# EAGLE library part S08B-PASK-2 (library con-jst-cubic)
JST EPA Side Entry Through Hole Standard type 8 pin
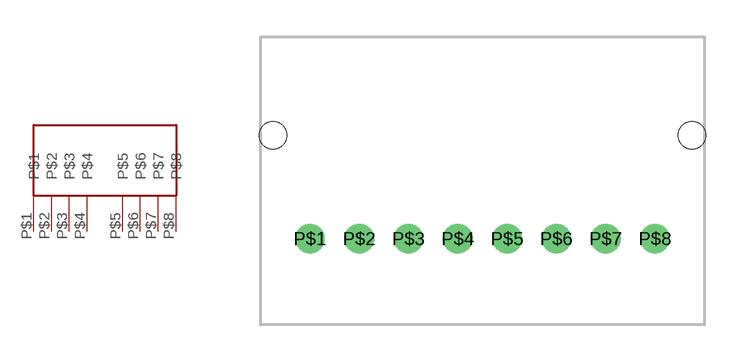
[diagram p1: symbol with the pads of S08B-PASK-2; footprint S08B-PASK-2]

Designator prefix -

## S08B-PASK-2  [S08B-PASK-2]
P$1  P$1
P$2  P$2
P$3  P$3
P$4  P$4
P$5  P$5
P$6  P$6
P$7  P$7
P$8  P$8

## Footprint S08B-PASK-2 (pad centres in mm)
JST EPA Side Entry Through Hole Standard type 8 pin
drill 0.7 round: P$1 -7,-2.35; P$2 -5,-2.35; P$3 -3,-2.35; P$4 -1,-2.35; P$5 1,-2.35; P$6 3,-2.35; P$7 5,-2.35; P$8 7,-2.35
hole 1.1 at -8.5,1.85
hole 1.1 at 8.5,1.85